# Altium footprint library 贴片IC.PcbLib: 51 footprints (part 4 of 4)
Each footprint in its own frame and in the unit in brackets; x right, y up, seen from the top. Pads: shape width x height; smd on the part's side, far side on the other; paste and mask are expansions set on the pad; w line width, h text height; cw(c..) or ccw(c..) is an arc to the next point about the centre after c.
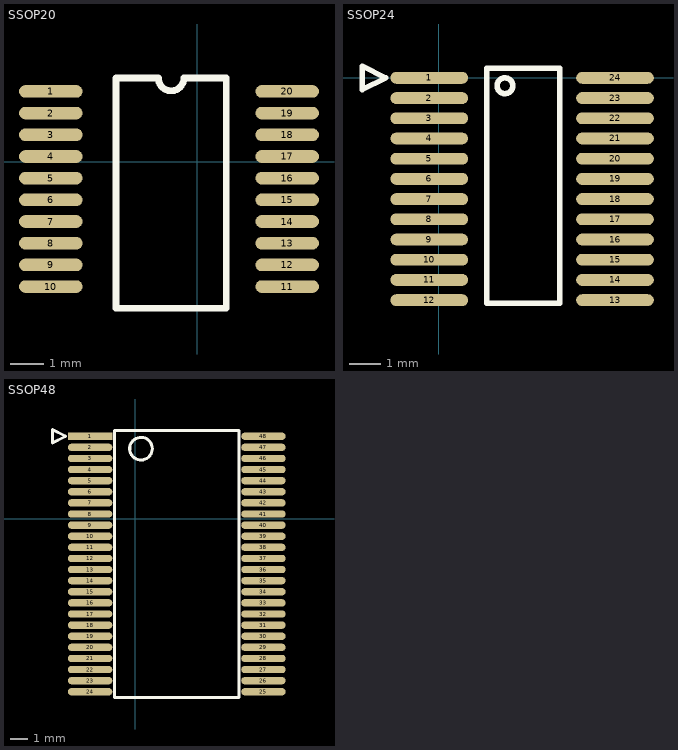
[diagram p3: the footprints below, top view; thin cyan lines are the x and y axes]

## SSOP20 [mil]
pads (20):
  oval 75x14.96 smd: 1(-173,83) 2(-173,57.41) 3(-173,31.82) 4(-173,6.23) 5(-173,-19.36) 6(-173,-44.95) 7(-173,-70.54) 8(-173,-96.14) 9(-173,-121.72) 10(-173,-147.32) 11(106,-147.32) 12(106,-121.72) 13(106,-96.14) 14(106,-70.54) 15(106,-44.95) 16(106,-19.36) 17(106,6.23) 18(106,31.82) 19(106,57.41) 20(106,83)
Top Overlay:
  lines w8: -96,-172.99 34,-172.99 34,98.67 -16,98.67 cw(c-31,98.67) -46,98.67 -96,98.67 -96,-172.99

## SSOP24 [mm]
pads (24):
  oval 2.5x0.381 smd: 1(-0.3,0) 2(-0.3,-0.65) 3(-0.3,-1.3) 4(-0.3,-1.95) 5(-0.3,-2.6) 6(-0.3,-3.25) 7(-0.3,-3.9) 8(-0.3,-4.55) 9(-0.3,-5.2) 10(-0.3,-5.85) 11(-0.3,-6.5) 12(-0.3,-7.15) 13(5.675,-7.15) 14(5.675,-6.5) 15(5.675,-5.85) 16(5.675,-5.2) 17(5.675,-4.55) 18(5.675,-3.9) 19(5.675,-3.25) 20(5.675,-2.6) 21(5.675,-1.95) 22(5.675,-1.3) 23(5.675,-0.65) 24(5.675,0)
Top Overlay:
  circle w0.178: c2.134,-0.254 r0.254
  lines w0.178: -2.459,-0.381 -1.697,0 -2.459,0.381 -2.459,-0.381 ; 1.552,-7.245 3.898,-7.245 3.898,0.315 1.552,0.315 1.552,-7.245

## SSOP48 [mil]
pads (48):
  rect 100x16.54 smd: 1(-102,186)
  oval 100x16.54 smd: 2(-102,161) 3(-102,136) 4(-102,111) 5(-102,86) 6(-102,61) 7(-102,36) 8(-102,11) 9(-102,-14) 10(-102,-39) 11(-102,-64) 12(-102,-89) 13(-102,-114) 14(-102,-139) 15(-102,-164) 16(-102,-189) 17(-102,-214) 18(-102,-239) 19(-102,-264) 20(-102,-289) 21(-102,-314) 22(-102,-339) 23(-102,-364) 24(-102,-389) 25(288,-389) 26(288,-364) 27(288,-339) 28(288,-314) 29(288,-289) 30(288,-264) 31(288,-239) 32(288,-214) 33(288,-189) 34(288,-164) 35(288,-139) 36(288,-114) 37(288,-89) 38(288,-64) 39(288,-39) 40(288,-14) 41(288,11) 42(288,36) 43(288,61) 44(288,86) 45(288,111) 46(288,136) 47(288,161) 48(288,186)
Top Overlay:
  circle w7: c12.51,158 r25.5
  lines w7: -187,171 -187,201 -157,186 -187,171 ; -47,-401.5 233,-401.5 233,198.5 -47,198.5 -47,-401.5